# Altium footprint library C0402(1005)x0.5.PcbLib: 1 footprints
Each footprint in its own frame and in the unit in brackets; x right, y up, seen from the top. Pads: shape width x height; smd on the part's side, far side on the other; paste and mask are expansions set on the pad; w line width, h text height; cw(c..) or ccw(c..) is an arc to the next point about the centre after c.
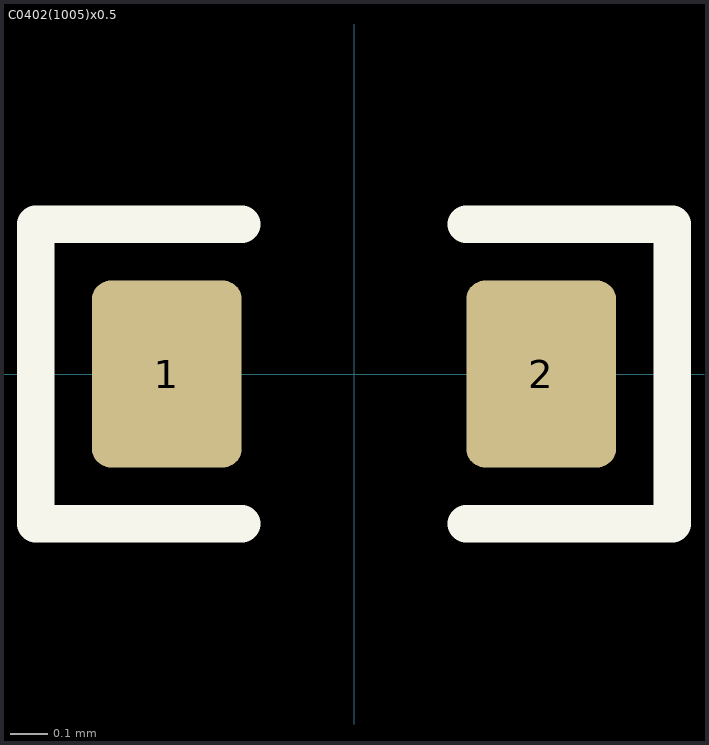
[diagram p0: the footprint, top view; thin cyan lines are the x and y axes]

## C0402(1005)x0.5 [mm]
height 0.5
pads (2):
  rrect25% 0.4x0.5 smd mask+0.102: 1(-0.5,0) 2(0.5,0)
Top Overlay:
  lines w0.1: -0.3,-0.4 -0.85,-0.4 -0.85,0.4 -0.3,0.4 ; 0.3,-0.4 0.85,-0.4 0.85,0.4 0.3,0.4
3D body "Cap 0402(1005)x50N.STEP": height 0.51, standoff 0, extent -0.5,-0.25 0.5,0.25